# Altium footprint library Interface.PcbLib: 169 footprints (part 2 of 11)
Each footprint in its own frame and in the unit in brackets; x right, y up, seen from the top. Pads: shape width x height; smd on the part's side, far side on the other; paste and mask are expansions set on the pad; w line width, h text height; cw(c..) or ccw(c..) is an arc to the next point about the centre after c.
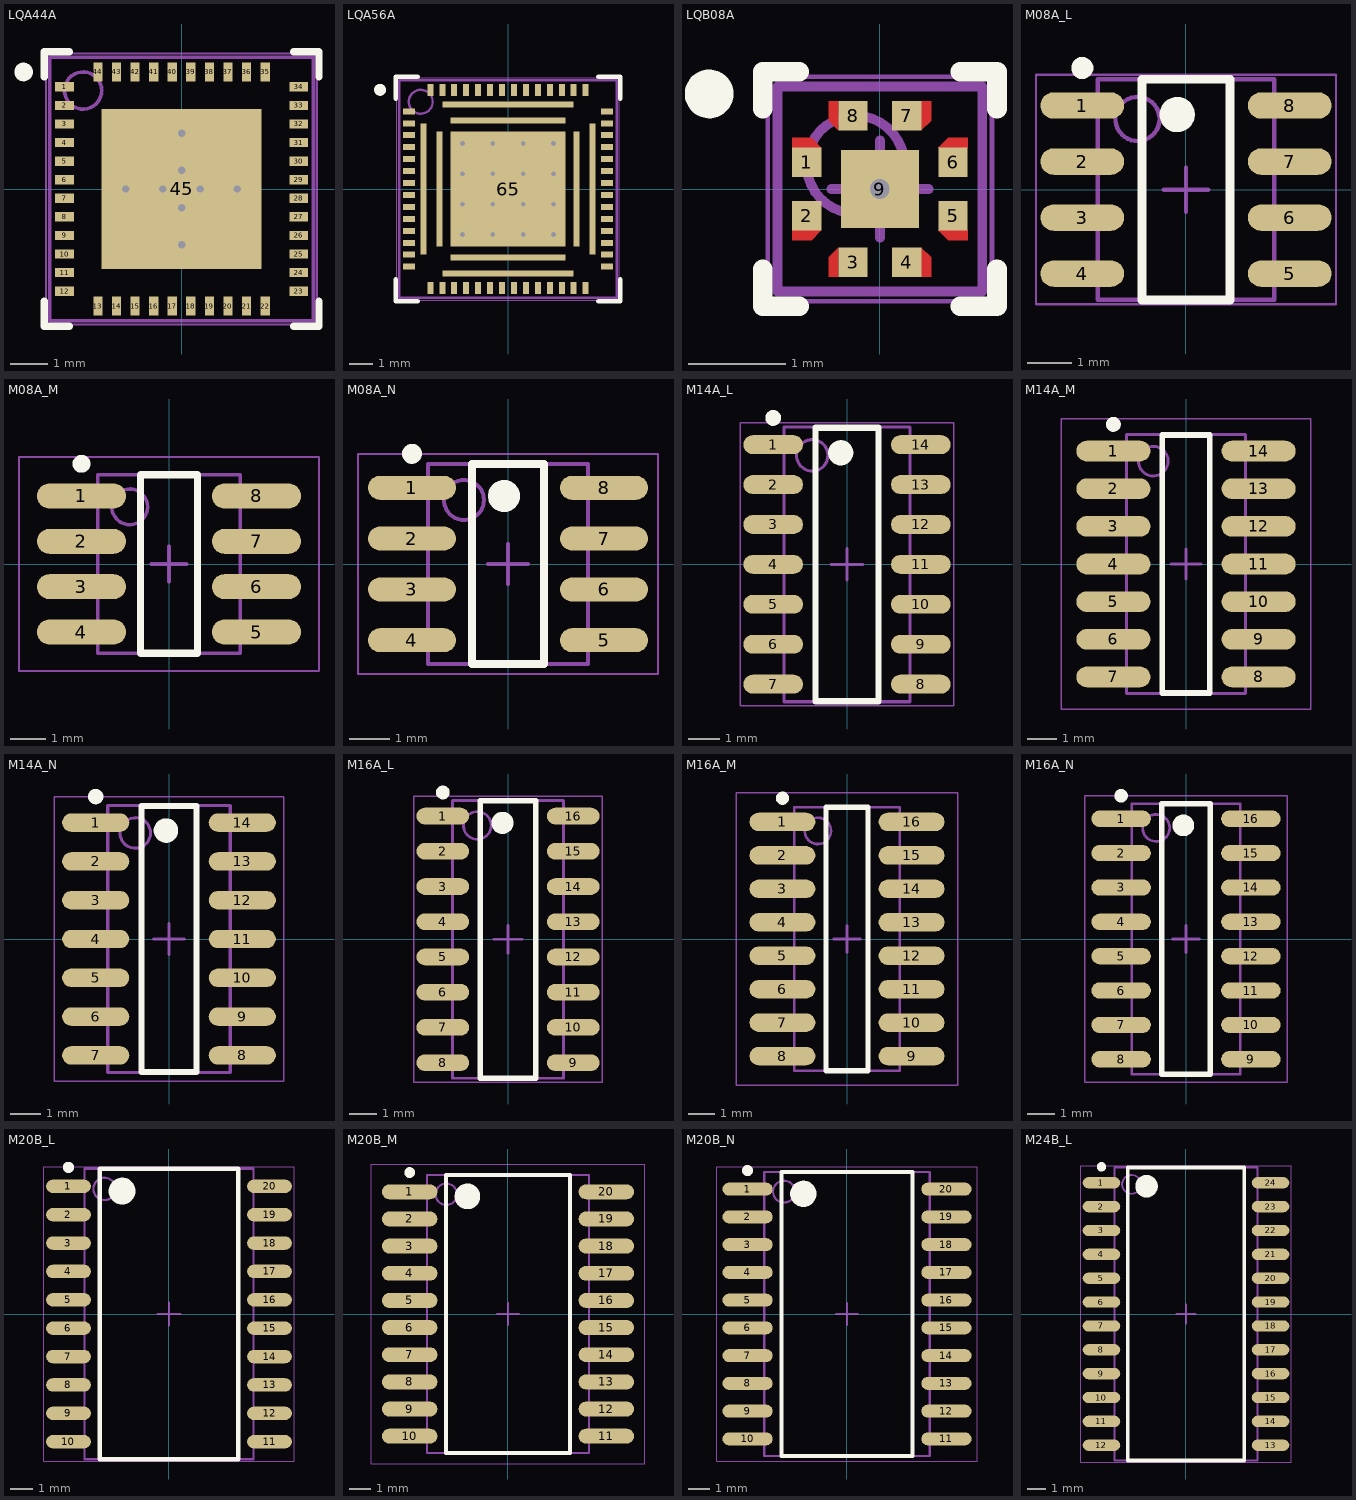
[diagram p1: the footprints below, top view; thin cyan lines are the x and y axes]

## LQA44A [mm] "QFN, 44-Leads, Body 7x7mm, Pitch 0.5mm, NSC Recommended"
height 0.8
pads (45):
  rect 0.5x0.25 smd paste-0.125 mask+0.051: 1(-3.15,2.75) 2(-3.15,2.25) 3(-3.15,1.75) 4(-3.15,1.25) 5(-3.15,0.75) 6(-3.15,0.25) 7(-3.15,-0.25) 8(-3.15,-0.75) 9(-3.15,-1.25) 10(-3.15,-1.75) 11(-3.15,-2.25) 12(-3.15,-2.75) 23(3.15,-2.75) 24(3.15,-2.25) 25(3.15,-1.75) 26(3.15,-1.25) 27(3.15,-0.75) 28(3.15,-0.25) 29(3.15,0.25) 30(3.15,0.75) 31(3.15,1.25) 32(3.15,1.75) 33(3.15,2.25) 34(3.15,2.75)
  rect 0.25x0.5 smd paste-0.125 mask+0.051: 13(-2.25,-3.15) 14(-1.75,-3.15) 15(-1.25,-3.15) 16(-0.75,-3.15) 17(-0.25,-3.15) 18(0.25,-3.15) 19(0.75,-3.15) 20(1.25,-3.15) 21(1.75,-3.15) 22(2.25,-3.15) 35(2.25,3.15) 36(1.75,3.15) 37(1.25,3.15) 38(0.75,3.15) 39(0.25,3.15) 40(-0.25,3.15) 41(-0.75,3.15) 42(-1.25,3.15) 43(-1.75,3.15) 44(-2.25,3.15)
  rect 4.3x4.3 smd paste-2.15 mask+0.051: 45(0,0)
via 0,0.5 diameter 0.5 hole 0.2
via 0,-0.5 diameter 0.5 hole 0.2
via 0.5,0 diameter 0.5 hole 0.2
via -0.5,0 diameter 0.5 hole 0.2
via 1.5,0 diameter 0.5 hole 0.2
via 0,1.5 diameter 0.5 hole 0.2
via 0,-1.5 diameter 0.5 hole 0.2
via -1.5,0 diameter 0.5 hole 0.2
Top Overlay:
  circle w0.25: c-4.25,3.15 r0.125
  lines w0.2: -3.7,-3.025 -3.7,-3.7 -3.025,-3.7 ; -3.7,3.025 -3.7,3.7 -3.025,3.7 ; 3.025,-3.7 3.7,-3.7 3.7,-3.025 ; 3.025,3.7 3.7,3.7 3.7,3.025
Top Paste:
  rectangle: 2.125,3 2.375,3.5
  rectangle: 1.625,3 1.875,3.5
  rectangle: 1.125,3 1.375,3.5
  rectangle: 0.625,3 0.875,3.5
  rectangle: 0.125,3 0.375,3.5
  rectangle: -0.375,3 -0.125,3.5
  rectangle: -0.875,3 -0.625,3.5
  rectangle: -1.375,3 -1.125,3.5
  rectangle: -1.875,3 -1.625,3.5
  rectangle: -2.375,3 -2.125,3.5
  region: 3,-2.625 3,-2.875 3.5,-2.875 3.5,-2.625
  region: 3,-2.125 3,-2.375 3.5,-2.375 3.5,-2.125
  region: 3,-1.625 3,-1.875 3.5,-1.875 3.5,-1.625
  region: 3,-1.125 3,-1.375 3.5,-1.375 3.5,-1.125
  region: 3,-0.625 3,-0.875 3.5,-0.875 3.5,-0.625
  region: 3,-0.125 3,-0.375 3.5,-0.375 3.5,-0.125
  region: 3,0.375 3,0.125 3.5,0.125 3.5,0.375
  region: 3,0.875 3,0.625 3.5,0.625 3.5,0.875
  region: 3,1.375 3,1.125 3.5,1.125 3.5,1.375
  region: 3,1.875 3,1.625 3.5,1.625 3.5,1.875
  region: 3,2.375 3,2.125 3.5,2.125 3.5,2.375
  region: -3,2.625 -3,2.875 -3.5,2.875 -3.5,2.625
  region: -3,2.125 -3,2.375 -3.5,2.375 -3.5,2.125
  region: -3,1.625 -3,1.875 -3.5,1.875 -3.5,1.625
  region: -3,1.125 -3,1.375 -3.5,1.375 -3.5,1.125
  region: -3,0.625 -3,0.875 -3.5,0.875 -3.5,0.625
  region: -3,0.125 -3,0.375 -3.5,0.375 -3.5,0.125
  region: -3,-0.375 -3,-0.125 -3.5,-0.125 -3.5,-0.375
  region: -3,-0.875 -3,-0.625 -3.5,-0.625 -3.5,-0.875
  region: -3,-1.375 -3,-1.125 -3.5,-1.125 -3.5,-1.375
  region: -3,-1.875 -3,-1.625 -3.5,-1.625 -3.5,-1.875
  region: -3,-2.375 -3,-2.125 -3.5,-2.125 -3.5,-2.375
  rectangle: 0.1,-2 2,-0.1
  region: -2,-0.1 -2,-2 -0.1,-2 -0.1,-0.1
  region: -0.1,2 -2,2 -2,0.1 -0.1,0.1
  rectangle: 0.1,0.1 2,2
  region: -3.5,-2.625 -3.5,-2.875 -3,-2.875 -3,-2.625
  region: 3,2.875 3,2.625 3.5,2.625 3.5,2.875
  rectangle: -2.375,-3.5 -2.125,-3
  rectangle: -1.875,-3.5 -1.625,-3
  rectangle: -1.375,-3.5 -1.125,-3
  rectangle: -0.875,-3.5 -0.625,-3
  rectangle: -0.375,-3.5 -0.125,-3
  rectangle: 0.125,-3.5 0.375,-3
  rectangle: 0.625,-3.5 0.875,-3
  rectangle: 1.125,-3.5 1.375,-3
  rectangle: 1.625,-3.5 1.875,-3
  rectangle: 2.125,-3.5 2.375,-3
Mechanical 13:
  circle w0.1: c-2.65,2.65 r0.5
  lines w0.1: -3.55,-3.55 -3.55,3.55 3.55,3.55 3.55,-3.55 -3.55,-3.55
Mechanical 15:
  lines w0.05: -3.65,-3.65 -3.65,3.65 3.65,3.65 3.65,-3.65 -3.65,-3.65
  lines w0.1: -0.5,0 0.5,0 ; 0,-0.5 0,0.5
3D body: height 0.8, standoff 0, extent -3.549,-3.549 3.549,3.549

## LQA56A [mm] "PQFN, 56-Leads, Body 9x9mm, Pitch 0.5mm, NSC Recommended"
height 0.8
pads (65):
  rect 0.5x0.25 smd paste-0.125 mask+0.051: 1(-4.15,3.25) 2(-4.15,2.75) 3(-4.15,2.25) 4(-4.15,1.75) 5(-4.15,1.25) 6(-4.15,0.75) 7(-4.15,0.25) 8(-4.15,-0.25) 9(-4.15,-0.75) 10(-4.15,-1.25) 11(-4.15,-1.75) 12(-4.15,-2.25) 13(-4.15,-2.75) 14(-4.15,-3.25) 29(4.15,-3.25) 30(4.15,-2.75) 31(4.15,-2.25) 32(4.15,-1.75) 33(4.15,-1.25) 34(4.15,-0.75) 35(4.15,-0.25) 36(4.15,0.25) 37(4.15,0.75) 38(4.15,1.25) 39(4.15,1.75) 40(4.15,2.25) 41(4.15,2.75) 42(4.15,3.25)
  rect 0.25x0.5 smd paste-0.125 mask+0.051: 15(-3.25,-4.15) 16(-2.75,-4.15) 17(-2.25,-4.15) 18(-1.75,-4.15) 19(-1.25,-4.15) 20(-0.75,-4.15) 21(-0.25,-4.15) 22(0.25,-4.15) 23(0.75,-4.15) 24(1.25,-4.15) 25(1.75,-4.15) 26(2.25,-4.15) 27(2.75,-4.15) 28(3.25,-4.15) 43(3.25,4.15) 44(2.75,4.15) 45(2.25,4.15) 46(1.75,4.15) 47(1.25,4.15) 48(0.75,4.15) 49(0.25,4.15) 50(-0.25,4.15) 51(-0.75,4.15) 52(-1.25,4.15) 53(-1.75,4.15) 54(-2.25,4.15) 55(-2.75,4.15) 56(-3.25,4.15)
  rect 0.25x5.5 smd paste-0.125 mask+0.051: 57(-3.525,0) 61(3.525,0)
  rect 0.25x4.8 smd paste-0.125 mask+0.051: 58(-2.875,0) 62(2.875,0)
  rect 5.5x0.25 smd paste-0.125 mask+0.051: 59(0,3.525) 63(0,-3.525)
  rect 4.8x0.25 smd paste-0.125 mask+0.051: 60(0,2.875) 64(0,-2.875)
  rect 4.8x4.8 smd paste-2.4 mask+0.051: 65(0,0)
via 1.905,-1.905 diameter 0.5 hole 0.2
via 0.635,-1.905 diameter 0.5 hole 0.2
via -0.635,-1.905 diameter 0.5 hole 0.2
via -1.905,-1.905 diameter 0.5 hole 0.2
via 1.905,-0.635 diameter 0.5 hole 0.2
via 0.635,-0.635 diameter 0.5 hole 0.2
via -0.635,-0.635 diameter 0.5 hole 0.2
via -1.905,-0.635 diameter 0.5 hole 0.2
via 1.905,0.635 diameter 0.5 hole 0.2
via 0.635,0.635 diameter 0.5 hole 0.2
via -0.635,0.635 diameter 0.5 hole 0.2
via -1.905,0.635 diameter 0.5 hole 0.2
via 1.905,1.905 diameter 0.5 hole 0.2
via 0.635,1.905 diameter 0.5 hole 0.2
via -0.635,1.905 diameter 0.5 hole 0.2
via -1.905,1.905 diameter 0.5 hole 0.2
Top Overlay:
  circle w0.25: c-5.35,4.15 r0.125
  lines w0.2: -4.7,-3.775 -4.7,-4.7 -3.775,-4.7 ; -4.7,3.775 -4.7,4.7 -3.775,4.7 ; 3.775,-4.7 4.7,-4.7 4.7,-3.775 ; 3.775,4.7 4.7,4.7 4.7,3.775
Top Paste:
  drawing of 152 lines, arcs and shapes, not listed
Mechanical 13:
  circle w0.1: c-3.65,3.65 r0.5
  lines w0.1: -4.55,-4.55 4.55,-4.55 4.55,4.55 -4.55,4.55 -4.55,-4.55
Mechanical 15:
  lines w0.05: -4.65,-4.65 4.65,-4.65 4.65,4.65 -4.65,4.65 -4.65,-4.65
  lines w0.1: -0.5,0 0.5,0 ; 0,-0.5 0,0.5
3D body: height 0.8, standoff 0, extent -4.55,-4.55 4.55,4.55

## LQB08A [mm] "PQFN, 8-Leads, Body 2x2mm, Pitch 0.65mm, Thermal Pad 0.8x0.8mm, NSC Recommended"
height 0.8
pads (9):
  rect 0.3x0.3 smd paste-0.15 mask-0.15: 1(-0.75,0.275) 2(-0.75,-0.275) 3(-0.275,-0.75) 4(0.275,-0.75) 5(0.75,-0.275) 6(0.75,0.275) 7(0.275,0.75) 8(-0.275,0.75)
  rect 0.8x0.8 smd paste-0.4 mask+0.051: 9(0,0)
via 0,0 diameter 0.5 hole 0.2
Top Layer:
  region: 0.425,0.9 0.525,0.9 0.525,0.7 0.425,0.6
  region: -0.425,0.9 -0.525,0.9 -0.525,0.7 -0.425,0.6
  region: 0.9,-0.425 0.9,-0.525 0.7,-0.525 0.6,-0.425
  region: 0.9,0.425 0.9,0.525 0.7,0.525 0.6,0.425
  region: -0.425,-0.9 -0.525,-0.9 -0.525,-0.7 -0.425,-0.6
  region: 0.425,-0.9 0.525,-0.9 0.525,-0.7 0.425,-0.6
  region: -0.9,-0.425 -0.9,-0.525 -0.7,-0.525 -0.6,-0.425
  region: -0.9,0.425 -0.9,0.525 -0.7,0.525 -0.6,0.425
Top Overlay:
  circle w0.25: c-1.75,0.975 r0.125
  lines w0.2: -1.2,-0.825 -1.2,-1.2 -0.825,-1.2 ; -1.2,0.825 -1.2,1.2 -0.825,1.2 ; 0.825,-1.2 1.2,-1.2 1.2,-0.825 ; 0.825,1.2 1.2,1.2 1.2,0.825
Top Paste:
  rectangle: -0.35,-0.35 0.35,0.35
  region: 0.125,1 0.525,1 0.525,0.8 0.425,0.7 0.125,0.7
  region: -0.125,1 -0.525,1 -0.525,0.8 -0.425,0.7 -0.125,0.7
  region: 1,-0.125 1,-0.525 0.8,-0.525 0.7,-0.425 0.7,-0.125
  region: 1,0.125 1,0.525 0.8,0.525 0.7,0.425 0.7,0.125
  region: -0.125,-1 -0.525,-1 -0.525,-0.8 -0.425,-0.7 -0.125,-0.7
  region: 0.125,-1 0.525,-1 0.525,-0.8 0.425,-0.7 0.125,-0.7
  region: -1,-0.125 -1,-0.525 -0.8,-0.525 -0.7,-0.425 -0.7,-0.125
  region: -1,0.125 -1,0.525 -0.8,0.525 -0.7,0.425 -0.7,0.125
Top Solder:
  region: 0.575,0.95 0.575,0.65 0.475,0.55 0.075,0.55 0.075,0.95
  region: -0.575,0.95 -0.575,0.65 -0.475,0.55 -0.075,0.55 -0.075,0.95
  region: 0.95,-0.575 0.65,-0.575 0.55,-0.475 0.55,-0.075 0.95,-0.075
  region: 0.95,0.575 0.65,0.575 0.55,0.475 0.55,0.075 0.95,0.075
  region: -0.575,-0.95 -0.575,-0.65 -0.475,-0.55 -0.075,-0.55 -0.075,-0.95
  region: 0.575,-0.95 0.575,-0.65 0.475,-0.55 0.075,-0.55 0.075,-0.95
  region: -0.95,-0.575 -0.65,-0.575 -0.55,-0.475 -0.55,-0.075 -0.95,-0.075
  region: -0.95,0.575 -0.65,0.575 -0.55,0.475 -0.55,0.075 -0.95,0.075
Mechanical 13:
  circle w0.1: c-0.25,0.25 r0.5
  lines w0.1: -1.05,-1.05 1.05,-1.05 1.05,1.05 -1.05,1.05 -1.05,-1.05
Mechanical 15:
  lines w0.05: -1.15,-1.15 -1.15,1.15 1.15,1.15 1.15,-1.15 -1.15,-1.15
  lines w0.1: -0.5,0 0.5,0 ; 0,-0.5 0,0.5
3D body: height 0.8, standoff 0, extent -1.049,-1.049 1.049,1.049

## M08A_L [mm] "SOIC, 8-Leads, Body 4.9x3.9mm, Pitch 1.27mm, IPC High Density"
height 1.75
pads (8):
  oval 1.9x0.6 smd: 1(-2.35,1.905) 2(-2.35,0.635) 3(-2.35,-0.635) 4(-2.35,-1.905) 5(2.35,-1.905) 6(2.35,-0.635) 7(2.35,0.635) 8(2.35,1.905)
Top Overlay:
  circle w0.25: c-2.35,2.755 r0.125
  circle w0.4: c-0.2,1.7 r0.2
  lines w0.2: -1,-2.5 -1,2.5 1,2.5 1,-2.5 -1,-2.5
Mechanical 13:
  circle w0.1: c-1.1,1.6 r0.5
  lines w0.1: -2,-2.5 -2,2.5 2,2.5 2,-2.5 -2,-2.5
Mechanical 15:
  lines w0.05: -3.4,-2.6 -3.4,2.6 3.4,2.6 3.4,-2.6 -3.4,-2.6
  lines w0.1: -0.5,0 0.5,0 ; 0,-0.5 0,0.5
3D body: height 1.75, standoff 0.1, extent -2,-2.5 2,2.5

## M08A_M [mm] "SOIC, 8-Leads, Body 4.9x3.9mm, Pitch 1.27mm, IPC Low Density"
height 1.75
pads (8):
  oval 2.5x0.7 smd: 1(-2.45,1.905) 2(-2.45,0.635) 3(-2.45,-0.635) 4(-2.45,-1.905) 5(2.45,-1.905) 6(2.45,-0.635) 7(2.45,0.635) 8(2.45,1.905)
Top Overlay:
  circle w0.25: c-2.45,2.805 r0.125
  lines w0.2: -0.8,-2.5 0.8,-2.5 0.8,2.5 -0.8,2.5 -0.8,-2.5
Mechanical 13:
  circle w0.1: c-1.1,1.6 r0.5
  lines w0.1: -2,-2.5 2,-2.5 2,2.5 -2,2.5 -2,-2.5
Mechanical 15:
  lines w0.05: -4.2,-3 4.2,-3 4.2,3 -4.2,3 -4.2,-3
  lines w0.1: -0.5,0 0.5,0 ; 0,-0.5 0,0.5
3D body: height 1.75, standoff 0.1, extent -2,-2.5 2,2.5

## M08A_N [mm] "SOIC, 8-Leads, Body 4.9x3.9mm, Pitch 1.27mm, IPC Medium Density"
height 1.75
pads (8):
  oval 2.2x0.6 smd: 1(-2.4,1.905) 2(-2.4,0.635) 3(-2.4,-0.635) 4(-2.4,-1.905) 5(2.4,-1.905) 6(2.4,-0.635) 7(2.4,0.635) 8(2.4,1.905)
Top Overlay:
  circle w0.25: c-2.4,2.755 r0.125
  circle w0.4: c-0.1,1.7 r0.2
  lines w0.2: -0.9,-2.5 -0.9,2.5 0.9,2.5 0.9,-2.5 -0.9,-2.5
Mechanical 13:
  circle w0.1: c-1.1,1.6 r0.5
  lines w0.1: -2,-2.5 -2,2.5 2,2.5 2,-2.5 -2,-2.5
Mechanical 15:
  lines w0.05: -3.75,-2.75 -3.75,2.75 3.75,2.75 3.75,-2.75 -3.75,-2.75
  lines w0.1: -0.5,0 0.5,0 ; 0,-0.5 0,0.5
3D body: height 1.75, standoff 0.1, extent -2,-2.5 2,2.5

## M14A_L [mm] "SOIC, 14-Leads, Body 8.6x3.9mm, Pitch 1.27mm, IPC High Density"
height 1.75
pads (14):
  oval 1.9x0.6 smd: 1(-2.35,3.81) 2(-2.35,2.54) 3(-2.35,1.27) 4(-2.35,0) 5(-2.35,-1.27) 6(-2.35,-2.54) 7(-2.35,-3.81) 8(2.35,-3.81) 9(2.35,-2.54) 10(2.35,-1.27) 11(2.35,0) 12(2.35,1.27) 13(2.35,2.54) 14(2.35,3.81)
Top Overlay:
  circle w0.4: c-0.2,3.55 r0.2
  circle w0.25: c-2.35,4.66 r0.125
  lines w0.2: -1,-4.35 1,-4.35 1,4.35 -1,4.35 -1,-4.35
Mechanical 13:
  circle w0.1: c-1.105,3.47 r0.5
  lines w0.1: -2.005,-4.37 2.005,-4.37 2.005,4.37 -2.005,4.37 -2.005,-4.37
Mechanical 15:
  lines w0.05: -3.4,-4.5 3.4,-4.5 3.4,4.5 -3.4,4.5 -3.4,-4.5
  lines w0.1: -0.5,0 0.5,0 ; 0,-0.5 0,0.5
3D body: height 1.75, standoff 0.1, extent -2.005,-4.37 2.005,4.37

## M14A_M [mm] "SOIC, 14-Leads, Body 8.6x3.9mm, Pitch 1.27mm, IPC Low Density"
height 1.75
pads (14):
  oval 2.5x0.7 smd: 1(-2.45,3.81) 2(-2.45,2.54) 3(-2.45,1.27) 4(-2.45,0) 5(-2.45,-1.27) 6(-2.45,-2.54) 7(-2.45,-3.81) 8(2.45,-3.81) 9(2.45,-2.54) 10(2.45,-1.27) 11(2.45,0) 12(2.45,1.27) 13(2.45,2.54) 14(2.45,3.81)
Top Overlay:
  circle w0.25: c-2.45,4.71 r0.125
  lines w0.2: -0.8,-4.35 0.8,-4.35 0.8,4.35 -0.8,4.35 -0.8,-4.35
Mechanical 13:
  circle w0.1: c-1.105,3.47 r0.5
  lines w0.1: -2.005,-4.37 2.005,-4.37 2.005,4.37 -2.005,4.37 -2.005,-4.37
Mechanical 15:
  lines w0.05: -4.2,-4.9 4.2,-4.9 4.2,4.9 -4.2,4.9 -4.2,-4.9
  lines w0.1: -0.5,0 0.5,0 ; 0,-0.5 0,0.5
3D body: height 1.75, standoff 0.1, extent -2.005,-4.37 2.005,4.37

## M14A_N [mm] "SOIC, 14-Leads, Body 8.6x3.9mm, Pitch 1.27mm, IPC Medium Density"
height 1.75
pads (14):
  oval 2.2x0.6 smd: 1(-2.4,3.81) 2(-2.4,2.54) 3(-2.4,1.27) 4(-2.4,0) 5(-2.4,-1.27) 6(-2.4,-2.54) 7(-2.4,-3.81) 8(2.4,-3.81) 9(2.4,-2.54) 10(2.4,-1.27) 11(2.4,0) 12(2.4,1.27) 13(2.4,2.54) 14(2.4,3.81)
Top Overlay:
  circle w0.4: c-0.1,3.55 r0.2
  circle w0.25: c-2.4,4.66 r0.125
  lines w0.2: -0.9,-4.35 0.9,-4.35 0.9,4.35 -0.9,4.35 -0.9,-4.35
Mechanical 13:
  circle w0.1: c-1.105,3.47 r0.5
  lines w0.1: -2.005,-4.37 2.005,-4.37 2.005,4.37 -2.005,4.37 -2.005,-4.37
Mechanical 15:
  lines w0.05: -3.75,-4.65 3.75,-4.65 3.75,4.65 -3.75,4.65 -3.75,-4.65
  lines w0.1: -0.5,0 0.5,0 ; 0,-0.5 0,0.5
3D body: height 1.75, standoff 0.1, extent -2.005,-4.37 2.005,4.37

## M16A_L [mm] "SOIC, 16-Leads, Body 9.9x3.9mm, Pitch 1.27mm, IPC High Density"
height 1.75
pads (16):
  oval 1.9x0.6 smd: 1(-2.35,4.445) 2(-2.35,3.175) 3(-2.35,1.905) 4(-2.35,0.635) 5(-2.35,-0.635) 6(-2.35,-1.905) 7(-2.35,-3.175) 8(-2.35,-4.445) 9(2.35,-4.445) 10(2.35,-3.175) 11(2.35,-1.905) 12(2.35,-0.635) 13(2.35,0.635) 14(2.35,1.905) 15(2.35,3.175) 16(2.35,4.445)
Top Overlay:
  circle w0.25: c-2.35,5.295 r0.125
  circle w0.4: c-0.2,4.2 r0.2
  lines w0.2: -1,-5 -1,5 1,5 1,-5 -1,-5
Mechanical 13:
  circle w0.1: c-1.105,4.105 r0.5
  lines w0.1: -2.005,-5.005 -2.005,5.005 2.005,5.005 2.005,-5.005 -2.005,-5.005
Mechanical 15:
  lines w0.05: -3.4,-5.15 -3.4,5.15 3.4,5.15 3.4,-5.15 -3.4,-5.15
  lines w0.1: -0.5,0 0.5,0 ; 0,-0.5 0,0.5
3D body: height 1.75, standoff 0.1, extent -2.005,-5.005 2.005,5.005

## M16A_M [mm] "SOIC, 16-Leads, Body 9.9x3.9mm, Pitch 1.27mm, IPC Low Density"
height 1.75
pads (16):
  oval 2.5x0.7 smd: 1(-2.45,4.445) 2(-2.45,3.175) 3(-2.45,1.905) 4(-2.45,0.635) 5(-2.45,-0.635) 6(-2.45,-1.905) 7(-2.45,-3.175) 8(-2.45,-4.445) 9(2.45,-4.445) 10(2.45,-3.175) 11(2.45,-1.905) 12(2.45,-0.635) 13(2.45,0.635) 14(2.45,1.905) 15(2.45,3.175) 16(2.45,4.445)
Top Overlay:
  circle w0.25: c-2.45,5.345 r0.125
  lines w0.2: -0.8,-5 -0.8,5 0.8,5 0.8,-5 -0.8,-5
Mechanical 13:
  circle w0.1: c-1.105,4.105 r0.5
  lines w0.1: -2.005,-5.005 -2.005,5.005 2.005,5.005 2.005,-5.005 -2.005,-5.005
Mechanical 15:
  lines w0.05: -4.2,-5.55 -4.2,5.55 4.2,5.55 4.2,-5.55 -4.2,-5.55
  lines w0.1: -0.5,0 0.5,0 ; 0,-0.5 0,0.5
3D body: height 1.75, standoff 0.1, extent -2.005,-5.005 2.005,5.005

## M16A_N [mm] "SOIC, 16-Leads, Body 9.9x3.9mm, Pitch 1.27mm, IPC Medium Density"
height 1.75
pads (16):
  oval 2.2x0.6 smd: 1(-2.4,4.445) 2(-2.4,3.175) 3(-2.4,1.905) 4(-2.4,0.635) 5(-2.4,-0.635) 6(-2.4,-1.905) 7(-2.4,-3.175) 8(-2.4,-4.445) 9(2.4,-4.445) 10(2.4,-3.175) 11(2.4,-1.905) 12(2.4,-0.635) 13(2.4,0.635) 14(2.4,1.905) 15(2.4,3.175) 16(2.4,4.445)
Top Overlay:
  circle w0.25: c-2.4,5.295 r0.125
  circle w0.4: c-0.1,4.2 r0.2
  lines w0.2: -0.9,-5 -0.9,5 0.9,5 0.9,-5 -0.9,-5
Mechanical 13:
  circle w0.1: c-1.105,4.105 r0.5
  lines w0.1: -2.005,-5.005 -2.005,5.005 2.005,5.005 2.005,-5.005 -2.005,-5.005
Mechanical 15:
  lines w0.05: -3.75,-5.3 -3.75,5.3 3.75,5.3 3.75,-5.3 -3.75,-5.3
  lines w0.1: -0.5,0 0.5,0 ; 0,-0.5 0,0.5
3D body: height 1.75, standoff 0.1, extent -2.005,-5.005 2.005,5.005

## M20B_L [mm] "SOIC, 20-Leads, Body 12.8x7.5mm, Pitch 1.27mm, IPC High Density"
height 2.6
pads (20):
  oval 2x0.6 smd: 1(-4.5,5.715) 2(-4.5,4.445) 3(-4.5,3.175) 4(-4.5,1.905) 5(-4.5,0.635) 6(-4.5,-0.635) 7(-4.5,-1.905) 8(-4.5,-3.175) 9(-4.5,-4.445) 10(-4.5,-5.715) 11(4.5,-5.715) 12(4.5,-4.445) 13(4.5,-3.175) 14(4.5,-1.905) 15(4.5,-0.635) 16(4.5,0.635) 17(4.5,1.905) 18(4.5,3.175) 19(4.5,4.445) 20(4.5,5.715)
Top Overlay:
  circle w0.25: c-4.5,6.565 r0.125
  circle w0.6: c-2.1,5.5 r0.3
  lines w0.2: -3.1,-6.5 -3.1,6.5 3.1,6.5 3.1,-6.5 -3.1,-6.5
Mechanical 13:
  circle w0.1: c-2.885,5.6 r0.5
  lines w0.1: -3.785,-6.5 -3.785,6.5 3.785,6.5 3.785,-6.5 -3.785,-6.5
Mechanical 15:
  lines w0.05: -5.6,-6.6 -5.6,6.6 5.6,6.6 5.6,-6.6 -5.6,-6.6
  lines w0.1: -0.5,0 0.5,0 ; 0,-0.5 0,0.5
3D body: height 2.6, standoff 0.11, extent -3.785,-6.5 3.785,6.5

## M20B_M [mm] "SOIC, 20-Leads, Body 12.8x7.5mm, Pitch 1.27mm, IPC Low Density"
height 2.6
pads (20):
  oval 2.6x0.7 smd: 1(-4.6,5.715) 2(-4.6,4.445) 3(-4.6,3.175) 4(-4.6,1.905) 5(-4.6,0.635) 6(-4.6,-0.635) 7(-4.6,-1.905) 8(-4.6,-3.175) 9(-4.6,-4.445) 10(-4.6,-5.715) 11(4.6,-5.715) 12(4.6,-4.445) 13(4.6,-3.175) 14(4.6,-1.905) 15(4.6,-0.635) 16(4.6,0.635) 17(4.6,1.905) 18(4.6,3.175) 19(4.6,4.445) 20(4.6,5.715)
Top Overlay:
  circle w0.25: c-4.6,6.615 r0.125
  circle w0.6: c-1.9,5.5 r0.3
  lines w0.2: -2.9,-6.5 -2.9,6.5 2.9,6.5 2.9,-6.5 -2.9,-6.5
Mechanical 13:
  circle w0.1: c-2.885,5.6 r0.5
  lines w0.1: -3.785,-6.5 -3.785,6.5 3.785,6.5 3.785,-6.5 -3.785,-6.5
Mechanical 15:
  lines w0.05: -6.4,-7 -6.4,7 6.4,7 6.4,-7 -6.4,-7
  lines w0.1: -0.5,0 0.5,0 ; 0,-0.5 0,0.5
3D body: height 2.6, standoff 0.11, extent -3.785,-6.5 3.785,6.5

## M20B_N [mm] "SOIC, 20-Leads, Body 12.8x7.5mm, Pitch 1.27mm, IPC Medium Density"
height 2.6
pads (20):
  oval 2.3x0.6 smd: 1(-4.55,5.715) 2(-4.55,4.445) 3(-4.55,3.175) 4(-4.55,1.905) 5(-4.55,0.635) 6(-4.55,-0.635) 7(-4.55,-1.905) 8(-4.55,-3.175) 9(-4.55,-4.445) 10(-4.55,-5.715) 11(4.55,-5.715) 12(4.55,-4.445) 13(4.55,-3.175) 14(4.55,-1.905) 15(4.55,-0.635) 16(4.55,0.635) 17(4.55,1.905) 18(4.55,3.175) 19(4.55,4.445) 20(4.55,5.715)
Top Overlay:
  circle w0.25: c-4.55,6.565 r0.125
  circle w0.6: c-2,5.5 r0.3
  lines w0.2: -3,-6.5 -3,6.5 3,6.5 3,-6.5 -3,-6.5
Mechanical 13:
  circle w0.1: c-2.885,5.6 r0.5
  lines w0.1: -3.785,-6.5 -3.785,6.5 3.785,6.5 3.785,-6.5 -3.785,-6.5
Mechanical 15:
  lines w0.05: -5.95,-6.75 -5.95,6.75 5.95,6.75 5.95,-6.75 -5.95,-6.75
  lines w0.1: -0.5,0 0.5,0 ; 0,-0.5 0,0.5
3D body: height 2.6, standoff 0.11, extent -3.785,-6.5 3.785,6.5

## M24B_L [mm] "SOIC, 24-Leads, Body 15.4x7.5mm, Pitch 1.27mm, IPC High Density"
height 2.65
pads (24):
  oval 2x0.6 smd: 1(-4.5,6.985) 2(-4.5,5.715) 3(-4.5,4.445) 4(-4.5,3.175) 5(-4.5,1.905) 6(-4.5,0.635) 7(-4.5,-0.635) 8(-4.5,-1.905) 9(-4.5,-3.175) 10(-4.5,-4.445) 11(-4.5,-5.715) 12(-4.5,-6.985) 13(4.5,-6.985) 14(4.5,-5.715) 15(4.5,-4.445) 16(4.5,-3.175) 17(4.5,-1.905) 18(4.5,-0.635) 19(4.5,0.635) 20(4.5,1.905) 21(4.5,3.175) 22(4.5,4.445) 23(4.5,5.715) 24(4.5,6.985)
Top Overlay:
  circle w0.25: c-4.5,7.835 r0.125
  circle w0.6: c-2.1,6.8 r0.3
  lines w0.2: -3.1,-7.8 -3.1,7.8 3.1,7.8 3.1,-7.8 -3.1,-7.8
Mechanical 13:
  circle w0.1: c-2.9,6.9 r0.5
  lines w0.1: -3.8,-7.8 -3.8,7.8 3.8,7.8 3.8,-7.8 -3.8,-7.8
Mechanical 15:
  lines w0.05: -5.6,-7.9 -5.6,7.9 5.6,7.9 5.6,-7.9 -5.6,-7.9
  lines w0.1: -0.5,0 0.5,0 ; 0,-0.5 0,0.5
3D body: height 2.65, standoff 0.1, extent -3.8,-7.8 3.8,7.8